# Altium schematic symbol library RaspberryPi.SchLib: 1 symbol
Pins are listed as number, name and electrical type; pins without a type are passive.

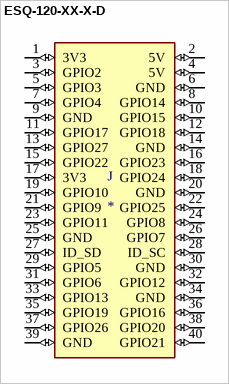
[diagram p0: symbol ESQ-120-XX-X-D]

## ESQ-120-XX-X-D
designator J
ESQ Series .100 PC/104â„¢ Elevated Socket Strip; MP: ESQ-120-38-S-D; MF: Samtec; Digi-Key_Purchase_URL: https://www.digikey.com/product-detail/en/samtec-inc/ESQ-120-38-S-D/ESQ-120-38-S-D-ND/7098755?utm_source=snapeda&utm_medium=aggregator&utm_campaign=symbol; SnapEDA_Link: https://www.snapeda.com/parts/ESQ-120-38-S-D/Samtec%20Inc/view-part/786160/?ref=snap; Digi-Key_Part_Number: ESQ-120-38-S-D-ND; Value: *; Package: None
footprint ESQ-120-XX-X-D
pins: 1 3V3 (io), 2 5V (io), 3 GPIO2 (io), 4 5V (io), 5 GPIO3 (io), 6 GND (io), 7 GPIO4 (io), 8 GPIO14 (io), 9 GND (io), 10 GPIO15 (io), 11 GPIO17 (io), 12 GPIO18 (io), 13 GPIO27 (io), 14 GND (io), 15 GPIO22 (io), 16 GPIO23 (io), 17 3V3 (io), 18 GPIO24 (io), 19 GPIO10 (io), 20 GND (io), 21 GPIO9 (io), 22 GPIO25 (io), 23 GPIO11 (io), 24 GPIO8 (io), 25 GND (io), 26 GPIO7 (io), 27 ID_SD (io), 28 ID_SC (io), 29 GPIO5 (io), 30 GND (io), 31 GPIO6 (io), 32 GPIO12 (io), 33 GPIO13 (io), 34 GND (io), 35 GPIO19 (io), 36 GPIO16 (io), 37 GPIO26 (io), 38 GPIO20 (io), 39 GND (io), 40 GPIO21 (io)